# Altium footprint library WR-CIRCM12.PcbLib: 41 footprints (part 2 of 3)
Each footprint in its own frame and in the unit in brackets; x right, y up, seen from the top. Pads: shape width x height; smd on the part's side, far side on the other; paste and mask are expansions set on the pad; w line width, h text height; cw(c..) or ccw(c..) is an arc to the next point about the centre after c.
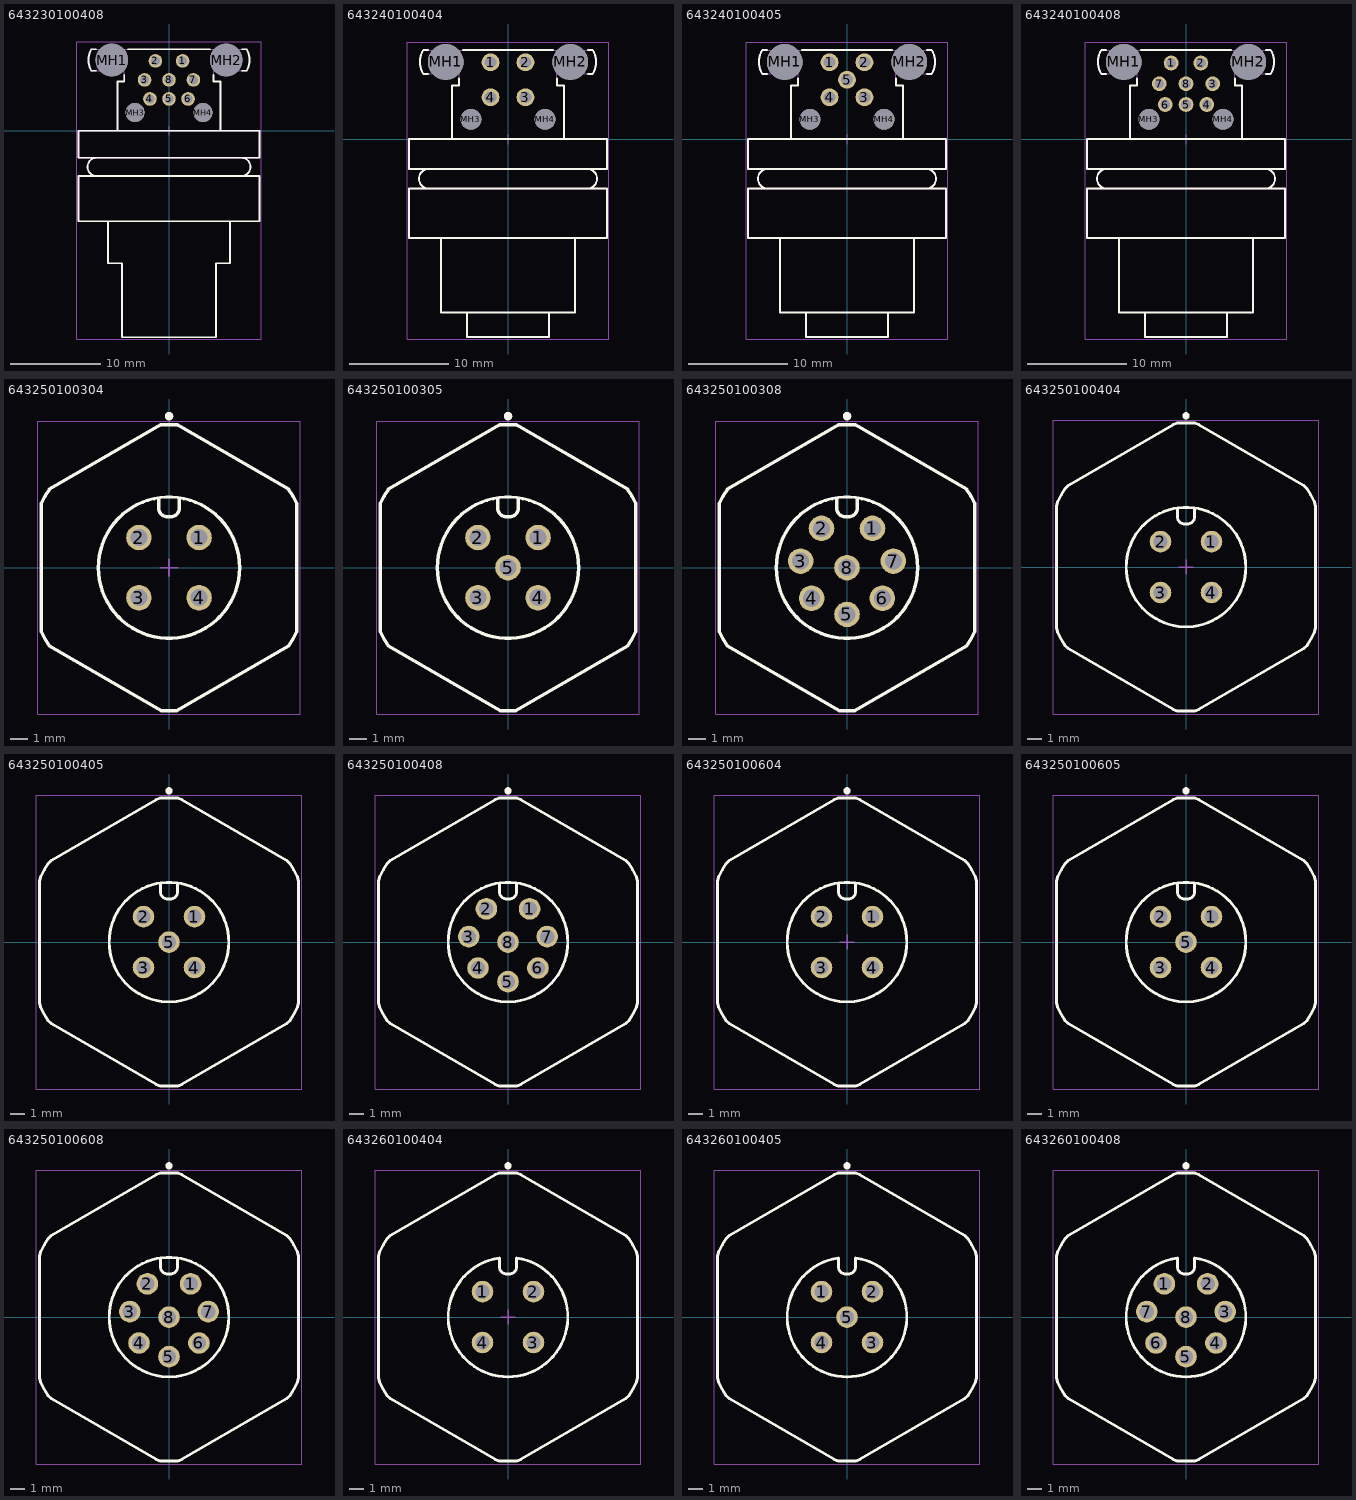
[diagram p1: the footprints below, top view; thin cyan lines are the x and y axes]

## 643230100408 [mm] "Serie M Male Plastic Angled Front Double"
height 22
pads (12):
  round 1.5 hole 1: 1(1.5,7.7) 2(-1.5,7.7) 3(-2.7,5.6) 4(-2.1,3.5) 5(0,3.5) 6(2.1,3.5) 7(2.7,5.6) 8(0,5.6)
  round 3.6 hole 3.6 unplated: MH1(-6.3,7.8) MH2(6.3,7.8)
  round 2.1 hole 2.1 unplated: MH3(-3.75,2) MH4(3.75,2)
Top Overlay:
  lines w0.2: -8.064,6.606 -8.564,6.606 cw(c-6.575,7.8) -8.561,8.999 -8.061,8.999 ; -8,-5 cw(c-8,-4) -8,-3 ; -6.75,-10 -6.75,-14.63 -5.185,-14.63 -5.185,-22.8 ; -6.3,7.8 -5.8,7.8 ; -5.68,0 -5.68,5.43 -4.93,5.43 -4.93,6.13 ; -5.185,-22.8 5.185,-22.8 ; -4.539,8.999 4.539,8.999 ; 4.93,6.13 4.93,5.43 5.68,5.43 5.68,0 ; 5.186,-22.8 5.186,-14.63 6.75,-14.63 6.75,-10 ; 8,-5 ccw(c8,-4) 8,-3 ; 8.061,8.999 8.561,8.999 cw(c6.575,7.8) 8.564,6.606 8.064,6.606 ; 9.9,-10 -10,-10 -10,-5 10,-5 10,-10 ; -10,-3 10,-3 10,0 -10,0 -10,-3
Assembly Notes:
  lines w0.2: -10,0 10,0
  text "PCB Edge" at -3.297,-1.633 h1
Top Assembly:
  lines w0.1: -8.564,6.6 -4.93,6.6 -4.93,5.43 -5.68,5.43 -5.68,0 ; -8.564,6.606 cw(c-6.575,7.8) -8.561,8.999 ; -8.561,9 8.561,9 ; -8,-5 cw(c-8,-4) -8,-3 ; -6.75,-10 -6.75,-14.63 -5.185,-14.63 -5.185,-22.8 ; -5.185,-22.8 5.185,-22.8 ; 5.186,-22.8 5.186,-14.63 6.75,-14.63 6.75,-10 ; 5.68,0 5.68,5.43 4.93,5.43 4.93,6.6 8.564,6.6 ; 8,-5 ccw(c8,-4) 8,-3 ; 8.561,8.999 cw(c6.575,7.8) 8.564,6.606 ; 9.9,-10 -10,-10 -10,-5 10,-5 10,-10 ; -10,-3 10,-3 10,0 -10,0 -10,-3
Top Designator:
  text ".Designator" at -3.647,5.243 h1
Top 3D Body:
  lines w0.1: -8.564,6.6 -4.93,6.6 -4.93,5.43 -5.68,5.43 -5.68,0 ; -8.564,6.606 cw(c-6.575,7.8) -8.561,8.999 ; -8.561,9 8.561,9 ; -8,-5 cw(c-8,-4) -8,-3 ; -6.75,-10 -6.75,-14.63 -5.185,-14.63 -5.185,-22.8 ; -5.185,-22.8 5.185,-22.8 ; 5.186,-22.8 5.186,-14.63 6.75,-14.63 6.75,-10 ; 5.68,0 5.68,5.43 4.93,5.43 4.93,6.6 8.564,6.6 ; 8,-5 ccw(c8,-4) 8,-3 ; 8.561,8.999 cw(c6.575,7.8) 8.564,6.606 ; 9.9,-10 -10,-10 -10,-5 10,-5 10,-10 ; -10,-3 10,-3 10,0 -10,0 -10,-3
Top Courtyard:
  lines w0.05: -10.2,-23 -10.2,9.8 10.2,9.8 10.2,-23 -10.2,-23
Top Component Center:
  lines w0.1: -0.5,0 0.5,0 ; 0,-0.5 0,0.5
3D body "643230100408.stp": height 23.1, standoff -3, extent -10,-22.8 10,9

## 643240100404 [mm] "Serie M Female Plastic Angled Front Double"
height 22
pads (8):
  round 1.8 hole 1.2: 1(-1.768,7.768) 2(1.768,7.768) 3(1.768,4.232) 4(-1.768,4.232)
  round 3.6 hole 3.6 unplated: MH1(-6.3,7.8) MH2(6.3,7.8)
  round 2.1 hole 2.1 unplated: MH3(-3.75,2) MH4(3.75,2)
Top Overlay:
  lines w0.2: -8.064,6.606 -8.564,6.606 cw(c-6.575,7.8) -8.561,8.999 -8.061,8.999 ; -8,-5 cw(c-8,-4) -8,-3 ; -6.75,-10 -6.75,-17.5 6.75,-17.5 6.75,-10 ; -6.3,7.8 -5.8,7.8 ; -5.68,0 -5.68,5.43 -4.93,5.43 -4.93,6.13 ; -4.539,8.999 4.539,8.999 ; -4.15,-17.5 -4.15,-20 4.15,-20 4.15,-17.5 ; 4.93,6.13 4.93,5.43 5.68,5.43 5.68,0 ; 8,-5 ccw(c8,-4) 8,-3 ; 8.061,8.999 8.561,8.999 cw(c6.575,7.8) 8.564,6.606 8.064,6.606 ; 9.9,-10 -10,-10 -10,-5 10,-5 10,-10 ; -10,-3 10,-3 10,0 -10,0 -10,-3
Assembly Notes:
  lines w0.2: -10,0 10,0
  text "PCB Edge" at -2.959,-1.533 h1
Top Assembly:
  lines w0.1: -8.564,6.6 -4.93,6.6 -4.93,5.43 -5.68,5.43 -5.68,0 ; -8.564,6.606 cw(c-6.575,7.8) -8.561,8.999 ; -8.561,9 8.561,9 ; -8,-5 cw(c-8,-4) -8,-3 ; -6.75,-10 -6.75,-17.5 6.75,-17.5 6.75,-10 ; -4.15,-17.5 -4.15,-20 4.15,-20 4.15,-17.5 ; 5.68,0 5.68,5.43 4.93,5.43 4.93,6.6 8.564,6.6 ; 8,-5 ccw(c8,-4) 8,-3 ; 8.561,8.999 cw(c6.575,7.8) 8.564,6.606 ; 9.9,-10 -10,-10 -10,-5 10,-5 10,-10 ; -10,-3 10,-3 10,0 -10,0 -10,-3
Top Designator:
  text ".Designator" at -3.647,5.643 h1
Top 3D Body:
  lines w0.1: -8.564,6.6 -4.93,6.6 -4.93,5.43 -5.68,5.43 -5.68,0 ; -8.564,6.606 cw(c-6.575,7.8) -8.561,8.999 ; -8.561,9 8.561,9 ; -8,-5 cw(c-8,-4) -8,-3 ; -6.75,-10 -6.75,-17.5 6.75,-17.5 6.75,-10 ; -4.15,-17.5 -4.15,-20 4.15,-20 4.15,-17.5 ; 5.68,0 5.68,5.43 4.93,5.43 4.93,6.6 8.564,6.6 ; 8,-5 ccw(c8,-4) 8,-3 ; 8.561,8.999 cw(c6.575,7.8) 8.564,6.606 ; 9.9,-10 -10,-10 -10,-5 10,-5 10,-10 ; -10,-3 -10,0 10,0 10,-3 -10,-3
Top Courtyard:
  lines w0.05: -10.2,-20.2 10.2,-20.2 10.2,9.8 -10.2,9.8 -10.2,-20.2
Top Component Center:
  lines w0.1: -0.5,0 0.5,0 ; 0,-0.5 0,0.5
3D body "643240100404.stp": height 23.1, standoff -3, extent -10,-20 10,9

## 643240100405 [mm] "Serie M Female Plastic Angled Front Double"
height 22
pads (9):
  round 1.8 hole 1.2: 1(-1.768,7.768) 2(1.768,7.768) 3(1.768,4.232) 4(-1.768,4.232) 5(0,6)
  round 3.6 hole 3.6 unplated: MH1(-6.3,7.8) MH2(6.3,7.8)
  round 2.1 hole 2.1 unplated: MH3(-3.75,2) MH4(3.75,2)
Top Overlay:
  lines w0.2: -8.064,6.606 -8.564,6.606 cw(c-6.575,7.8) -8.561,8.999 -8.061,8.999 ; -8,-5 cw(c-8,-4) -8,-3 ; -6.75,-10 -6.75,-17.5 6.75,-17.5 6.75,-10 ; -6.3,7.8 -5.8,7.8 ; -5.68,0 -5.68,5.43 -4.93,5.43 -4.93,6.13 ; -4.539,8.999 4.539,8.999 ; -4.15,-17.5 -4.15,-20 4.15,-20 4.15,-17.5 ; 4.93,6.13 4.93,5.43 5.68,5.43 5.68,0 ; 8,-5 ccw(c8,-4) 8,-3 ; 8.061,8.999 8.561,8.999 cw(c6.575,7.8) 8.564,6.606 8.064,6.606 ; 9.9,-10 -10,-10 -10,-5 10,-5 10,-10 ; -10,-3 -10,0 10,0 10,-3 -10,-3
Assembly Notes:
  lines w0.1: -10,0 10,0
  text "PCB Edge" at -2.959,-1.533 h1
Top Assembly:
  lines w0.1: -8.564,6.6 -4.93,6.6 -4.93,5.43 -5.68,5.43 -5.68,0 ; -8.564,6.606 cw(c-6.575,7.8) -8.561,8.999 ; -8.561,9 8.561,9 ; -8,-5 cw(c-8,-4) -8,-3 ; -6.75,-10 -6.75,-17.5 6.75,-17.5 6.75,-10 ; -4.15,-17.5 -4.15,-20 4.15,-20 4.15,-17.5 ; 5.68,0 5.68,5.43 4.93,5.43 4.93,6.6 8.564,6.6 ; 8,-5 ccw(c8,-4) 8,-3 ; 8.561,8.999 cw(c6.575,7.8) 8.564,6.606 ; 9.9,-10 -10,-10 -10,-5 10,-5 10,-10 ; -10,-3 -10,0 10,0 10,-3 -10,-3
Top Designator:
  text ".Designator" at -3.647,5.643 h1
Top 3D Body:
  lines w0.1: -8.564,6.6 -4.93,6.6 -4.93,5.43 -5.68,5.43 -5.68,0 ; -8.564,6.606 cw(c-6.575,7.8) -8.561,8.999 ; -8.561,9 8.561,9 ; -8,-5 cw(c-8,-4) -8,-3 ; -6.75,-10 -6.75,-17.5 6.75,-17.5 6.75,-10 ; -4.15,-17.5 -4.15,-20 4.15,-20 4.15,-17.5 ; 5.68,0 5.68,5.43 4.93,5.43 4.93,6.6 8.564,6.6 ; 8,-5 ccw(c8,-4) 8,-3 ; 8.561,8.999 cw(c6.575,7.8) 8.564,6.606 ; 9.9,-10 -10,-10 -10,-5 10,-5 10,-10 ; -10,-3 10,-3 10,0 -10,0 -10,-3
Top Courtyard:
  lines w0.05: -10.2,-20.2 -10.2,9.8 10.2,9.8 10.2,-20.2 -10.2,-20.2
Top Component Center:
  lines w0.1: -0.5,0 0.5,0 ; 0,-0.5 0,0.5
3D body "643240100405.stp": height 23.1, standoff -3, extent -10,-20 10,9

## 643240100408 [mm] "Serie M Female Plastic Angled Front Double"
height 22
pads (12):
  round 1.5 hole 1: 1(-1.5,7.7) 2(1.5,7.7) 3(2.7,5.6) 4(2.1,3.5) 5(0,3.5) 6(-2.1,3.5) 7(-2.7,5.6) 8(0,5.6)
  round 3.6 hole 3.6 unplated: MH1(-6.3,7.8) MH2(6.3,7.8)
  round 2.1 hole 2.1 unplated: MH3(-3.75,2) MH4(3.75,2)
Top Overlay:
  lines w0.2: -8.064,6.606 -8.564,6.606 cw(c-6.575,7.8) -8.561,8.999 -8.061,8.999 ; -8,-5 cw(c-8,-4) -8,-3 ; -6.75,-10 -6.75,-17.5 6.75,-17.5 6.75,-10 ; -6.3,7.8 -5.8,7.8 ; -5.68,0 -5.68,5.43 -4.93,5.43 -4.93,6.13 ; -4.539,8.999 4.539,8.999 ; -4.15,-17.5 -4.15,-20 4.15,-20 4.15,-17.5 ; 4.93,6.13 4.93,5.43 5.68,5.43 5.68,0 ; 8,-5 ccw(c8,-4) 8,-3 ; 8.061,8.999 8.561,8.999 cw(c6.575,7.8) 8.564,6.606 8.064,6.606 ; 9.9,-10 -10,-10 -10,-5 10,-5 10,-10 ; -10,-3 -10,0 10,0 10,-3 -10,-3
Assembly Notes:
  lines w0.1: -10,0 10,0
  text "PCB Edge" at -2.959,-1.533 h1
Top Assembly:
  lines w0.1: -8.564,6.6 -4.93,6.6 -4.93,5.43 -5.68,5.43 -5.68,0 ; -8.564,6.606 cw(c-6.575,7.8) -8.561,8.999 ; -8.561,9 8.561,9 ; -8,-5 cw(c-8,-4) -8,-3 ; -6.75,-10 -6.75,-17.5 6.75,-17.5 6.75,-10 ; -4.15,-17.5 -4.15,-20 4.15,-20 4.15,-17.5 ; 5.68,0 5.68,5.43 4.93,5.43 4.93,6.6 8.564,6.6 ; 8,-5 ccw(c8,-4) 8,-3 ; 8.561,8.999 cw(c6.575,7.8) 8.564,6.606 ; 9.9,-10 -10,-10 -10,-5 10,-5 10,-10 ; -10,-3 -10,0 10,0 10,-3 -10,-3
Top Designator:
  text ".Designator" at -3.647,5.243 h1
Top 3D Body:
  lines w0.1: -8.564,6.6 -4.93,6.6 -4.93,5.43 -5.68,5.43 -5.68,0 ; -8.564,6.606 cw(c-6.575,7.8) -8.561,8.999 ; -8.561,9 8.561,9 ; -8,-5 cw(c-8,-4) -8,-3 ; -6.75,-10 -6.75,-17.5 6.75,-17.5 6.75,-10 ; -4.15,-17.5 -4.15,-20 4.15,-20 4.15,-17.5 ; 5.68,0 5.68,5.43 4.93,5.43 4.93,6.6 8.564,6.6 ; 8,-5 ccw(c8,-4) 8,-3 ; 8.561,8.999 cw(c6.575,7.8) 8.564,6.606 ; 9.9,-10 -10,-10 -10,-5 10,-5 10,-10 ; -10,-3 10,-3 10,0 -10,0 -10,-3
Top Courtyard:
  lines w0.05: -10.2,-20.2 -10.2,9.8 10.2,9.8 10.2,-20.2 -10.2,-20.2
Top Component Center:
  lines w0.1: -0.5,0 0.5,0 ; 0,-0.5 0,0.5
3D body "643240100408.stp": height 23.1, standoff -3, extent -10,-20 10,9

## 643250100304 [mm] "Male Metal Straight Front Simple"
height 23.5
pads (4):
  round 1.5 hole 1: 1(1.768,1.768) 2(-1.768,1.768) 3(-1.768,-1.768) 4(1.768,-1.768)
Top Overlay:
  circle w0.25: c0,8.9 r0.125
  circle w0.2: c0,0 r4.15
  lines w0.2: -7.5,-3.785 -7.5,3.785 ; -7.499,-3.785 ccw(c0,0) -7.027,-4.603 ; -7.499,3.785 cw(c0,0) -7.027,4.603 ; -7.03,-4.605 -0.457,-8.4 0.457,-8.4 7.03,-4.605 ; -7.03,4.605 -0.457,8.4 0.457,8.4 7.03,4.605 ; -0.6,4.09 -0.6,3.49 ccw(c-0.1,3.49) -0.1,2.99 0.1,2.99 ccw(c0.1,3.49) 0.6,3.49 0.6,4.09 ; 7.027,-4.603 ccw(c0,0) 7.499,-3.785 ; 7.027,4.603 cw(c0,0) 7.499,3.785 ; 7.5,-3.785 7.5,3.785
Top Assembly:
  circle w0.1: c0,0 r4.15
  lines w0.1: -7.5,-3.785 -7.5,3.785 ; -7.499,-3.785 ccw(c0,0) -7.027,-4.603 ; -7.499,3.785 cw(c0,0) -7.027,4.603 ; -7.03,-4.605 -0.457,-8.4 0.457,-8.4 7.03,-4.605 ; -7.03,4.605 -0.457,8.4 0.457,8.4 7.03,4.605 ; -0.6,4.09 -0.6,3.49 ccw(c-0.1,3.49) -0.1,2.99 0.1,2.99 ccw(c0.1,3.49) 0.6,3.49 0.6,4.09 ; 7.027,-4.603 ccw(c0,0) 7.499,-3.785 ; 7.027,4.603 cw(c0,0) 7.499,3.785 ; 7.5,-3.785 7.5,3.785
Top Designator:
  text ".Designator" at -3.647,-0.357 h1
Top Courtyard:
  lines w0.05: -7.7,-8.6 -7.7,8.6 7.7,8.6 7.7,-8.6 -7.7,-8.6
Top Component Center:
  lines w0.1: -0.5,0 0.5,0 ; 0,-0.5 0,0.5
3D body "643250100304.stp": height 23.55, standoff -2.95, extent -7.5,-8.4 7.5,8.399

## 643250100305 [mm] "Male Metal Straight Front Simple"
height 23.5
pads (5):
  round 1.5 hole 1: 1(1.768,1.768) 2(-1.768,1.768) 3(-1.768,-1.768) 4(1.768,-1.768) 5(0,0)
Top Overlay:
  circle w0.2: c0,0 r4.15
  circle w0.25: c0,8.9 r0.125
  lines w0.2: -7.5,-3.785 -7.5,3.785 ; -7.499,-3.785 ccw(c0,0) -7.027,-4.603 ; -7.499,3.785 cw(c0,0) -7.027,4.603 ; -7.03,-4.605 -0.457,-8.4 0.457,-8.4 7.03,-4.605 ; -7.03,4.605 -0.457,8.4 0.457,8.4 7.03,4.605 ; -0.6,4.09 -0.6,3.49 ccw(c-0.1,3.49) -0.1,2.99 0.1,2.99 ccw(c0.1,3.49) 0.6,3.49 0.6,4.09 ; 7.027,-4.603 ccw(c0,0) 7.499,-3.785 ; 7.027,4.603 cw(c0,0) 7.499,3.785 ; 7.5,-3.785 7.5,3.785
Top Assembly:
  circle w0.1: c0,0 r4.15
  lines w0.1: -7.5,-3.785 -7.5,3.785 ; -7.499,-3.785 ccw(c0,0) -7.027,-4.603 ; -7.499,3.785 cw(c0,0) -7.027,4.603 ; -7.03,-4.605 -0.457,-8.4 0.457,-8.4 7.03,-4.605 ; -7.03,4.605 -0.457,8.4 0.457,8.4 7.03,4.605 ; -0.6,4.09 -0.6,3.49 ccw(c-0.1,3.49) -0.1,2.99 0.1,2.99 ccw(c0.1,3.49) 0.6,3.49 0.6,4.09 ; 7.027,-4.603 ccw(c0,0) 7.499,-3.785 ; 7.027,4.603 cw(c0,0) 7.499,3.785 ; 7.5,-3.785 7.5,3.785
Top Designator:
  text ".Designator" at -3.647,-0.357 h1
Top Courtyard:
  lines w0.05: -7.7,-8.6 7.7,-8.6 7.7,8.6 -7.7,8.6 -7.7,-8.6
Top Component Center:
  lines w0.1: -0.5,0 0.5,0 ; 0,-0.5 0,0.5
3D body "643250100305.stp": height 23.55, standoff -2.95, extent -7.5,-8.4 7.5,8.399

## 643250100308 [mm] "Male Metal Straight Front Simple"
height 23.5
pads (8):
  round 1.5 hole 1: 1(1.498,2.306) 2(-1.498,2.306) 3(-2.723,0.383) 4(-2.08,-1.8) 5(0,-2.75) 6(2.08,-1.8) 7(2.723,0.383) 8(0,0)
Top Overlay:
  circle w0.2: c0,0 r4.15
  circle w0.25: c0,8.9 r0.125
  lines w0.2: -7.5,-3.785 -7.5,3.785 ; -7.499,-3.785 ccw(c0,0) -7.027,-4.603 ; -7.499,3.785 cw(c0,0) -7.027,4.603 ; -7.03,-4.605 -0.457,-8.4 0.457,-8.4 7.03,-4.605 ; -7.03,4.605 -0.457,8.4 0.457,8.4 7.03,4.605 ; -0.6,4.09 -0.6,3.49 ccw(c-0.1,3.49) -0.1,2.99 0.1,2.99 ccw(c0.1,3.49) 0.6,3.49 0.6,4.09 ; 7.027,-4.603 ccw(c0,0) 7.499,-3.785 ; 7.027,4.603 cw(c0,0) 7.499,3.785 ; 7.5,-3.785 7.5,3.785
Top Assembly:
  circle w0.1: c0,0 r4.15
  lines w0.1: -7.5,-3.785 -7.5,3.785 ; -7.499,-3.785 ccw(c0,0) -7.027,-4.603 ; -7.499,3.785 cw(c0,0) -7.027,4.603 ; -7.03,-4.605 -0.457,-8.4 0.457,-8.4 7.03,-4.605 ; -7.03,4.605 -0.457,8.4 0.457,8.4 7.03,4.605 ; -0.6,4.09 -0.6,3.49 ccw(c-0.1,3.49) -0.1,2.99 0.1,2.99 ccw(c0.1,3.49) 0.6,3.49 0.6,4.09 ; 7.027,-4.603 ccw(c0,0) 7.499,-3.785 ; 7.027,4.603 cw(c0,0) 7.499,3.785 ; 7.5,-3.785 7.5,3.785
Top Designator:
  text ".Designator" at -3.647,-0.357 h1
Top Courtyard:
  lines w0.05: -7.7,-8.6 -7.7,8.6 7.7,8.6 7.7,-8.6 -7.7,-8.6
Top Component Center:
  lines w0.1: -0.5,0 0.5,0 ; 0,-0.5 0,0.5
3D body "643250100308.stp": height 23.55, standoff -2.95, extent -7.5,-8.4 7.5,8.399

## 643250100404 [mm] "Male Metal Straight Front Double M16 - M12, 4p"
height 20.5
pads (4):
  round 1.5 hole 1: 1(1.768,1.768) 2(-1.768,1.768) 3(-1.768,-1.768) 4(1.768,-1.768)
Top Overlay:
  circle w0.2: c0,0 r4.15
  circle w0.25: c0,10.5 r0.125
  lines w0.2: -8.925,-4.511 -9,-4.195 -9,4.195 -8.925,4.511 ; -8.91,-4.54 ccw(c0,0) -8.366,-5.479 ; -8.91,4.54 cw(c0,0) -8.366,5.479 ; -8.36,-5.475 -8.149,-5.674 -0.891,-9.883 -0.623,-9.994 ; -8.36,5.475 -8.149,5.674 -0.891,9.883 -0.623,9.994 ; -0.6,-10 0.6,-10 ; -0.6,4.09 -0.6,3.49 ccw(c-0.1,3.49) -0.1,2.99 0.1,2.99 ccw(c0.1,3.49) 0.6,3.49 0.6,4.09 ; -0.6,10 0.6,10 ; 0.623,-9.994 0.891,-9.883 8.149,-5.674 8.36,-5.475 ; 0.623,9.994 0.891,9.883 8.149,5.674 8.36,5.475 ; 8.366,-5.479 ccw(c0,0) 8.91,-4.54 ; 8.366,5.479 cw(c0,0) 8.91,4.54 ; 8.925,-4.511 9,-4.195 9,4.195 8.925,4.511
Top Assembly:
  circle w0.1: c0,0 r4.15
  lines w0.1: -8.925,-4.511 -9,-4.195 -9,4.195 -8.925,4.511 ; -8.91,-4.54 ccw(c0,0) -8.366,-5.479 ; -8.91,4.54 cw(c0,0) -8.366,5.479 ; -8.36,-5.475 -8.149,-5.674 -0.891,-9.883 -0.623,-9.994 ; -8.36,5.475 -8.149,5.674 -0.891,9.883 -0.623,9.994 ; -0.6,-10 0.6,-10 ; -0.6,4.09 -0.6,3.49 ccw(c-0.1,3.49) -0.1,2.99 0.1,2.99 ccw(c0.1,3.49) 0.6,3.49 0.6,4.09 ; -0.6,10 0.6,10 ; 0.623,-9.994 0.891,-9.883 8.149,-5.674 8.36,-5.475 ; 0.623,9.994 0.891,9.883 8.149,5.674 8.36,5.475 ; 8.366,-5.479 ccw(c0,0) 8.91,-4.54 ; 8.366,5.479 cw(c0,0) 8.91,4.54 ; 8.925,-4.511 9,-4.195 9,4.195 8.925,4.511
Top Designator:
  text ".Designator" at -3.647,-0.357 h1
Top 3D Body:
  circle w0.1: c0,0 r4.15
  lines w0.1: -8.925,-4.511 -9,-4.195 -9,4.195 -8.925,4.511 ; -8.91,-4.54 ccw(c0,0) -8.366,-5.479 ; -8.91,4.54 cw(c0,0) -8.366,5.479 ; -8.36,-5.475 -8.149,-5.674 -0.891,-9.883 -0.623,-9.994 ; -8.36,5.475 -8.149,5.674 -0.891,9.883 -0.623,9.994 ; -0.6,-10 0.6,-10 ; -0.6,4.09 -0.6,3.49 ccw(c-0.1,3.49) -0.1,2.99 0.1,2.99 ccw(c0.1,3.49) 0.6,3.49 0.6,4.09 ; -0.6,10 0.6,10 ; 0.623,-9.994 0.891,-9.883 8.149,-5.674 8.36,-5.475 ; 0.623,9.994 0.891,9.883 8.149,5.674 8.36,5.475 ; 8.366,-5.479 ccw(c0,0) 8.91,-4.54 ; 8.366,5.479 cw(c0,0) 8.91,4.54 ; 8.925,-4.511 9,-4.195 9,4.195 8.925,4.511
Top Courtyard:
  lines w0.05: -9.2,-10.2 9.2,-10.2 9.2,10.2 -9.2,10.2 -9.2,-10.2
Top Component Center:
  lines w0.1: -0.5,0 0.5,0 ; 0,-0.5 0,0.5
3D body "643250100404.stp": height 23.6, standoff -2.9, extent -9.016,-9.999 9.024,9.998

## 643250100405 [mm] "Male Metal Straight Front Double M16 - M12, 5p"
height 20.5
pads (5):
  round 1.5 hole 1: 1(1.768,1.768) 2(-1.768,1.768) 3(-1.768,-1.768) 4(1.768,-1.768) 5(0,0)
Top Overlay:
  circle w0.2: c0,0 r4.15
  circle w0.25: c0,10.5 r0.125
  lines w0.2: -8.925,-4.511 -9,-4.195 -9,4.195 -8.925,4.511 ; -8.91,-4.54 ccw(c0,0) -8.366,-5.479 ; -8.91,4.54 cw(c0,0) -8.366,5.479 ; -8.36,-5.475 -8.149,-5.674 -0.891,-9.883 -0.623,-9.994 ; -8.36,5.475 -8.149,5.674 -0.891,9.883 -0.623,9.994 ; -0.6,-10 0.6,-10 ; -0.6,4.09 -0.6,3.49 ccw(c-0.1,3.49) -0.1,2.99 0.1,2.99 ccw(c0.1,3.49) 0.6,3.49 0.6,4.09 ; -0.6,10 0.6,10 ; 0.623,-9.994 0.891,-9.883 8.149,-5.674 8.36,-5.475 ; 0.623,9.994 0.891,9.883 8.149,5.674 8.36,5.475 ; 8.366,-5.479 ccw(c0,0) 8.91,-4.54 ; 8.366,5.479 cw(c0,0) 8.91,4.54 ; 8.925,-4.511 9,-4.195 9,4.195 8.925,4.511
Top Assembly:
  circle w0.1: c0,0 r4.15
  lines w0.1: -8.925,-4.511 -9,-4.195 -9,4.195 -8.925,4.511 ; -8.91,-4.54 ccw(c0,0) -8.366,-5.479 ; -8.91,4.54 cw(c0,0) -8.366,5.479 ; -8.36,-5.475 -8.149,-5.674 -0.891,-9.883 -0.623,-9.994 ; -8.36,5.475 -8.149,5.674 -0.891,9.883 -0.623,9.994 ; -0.6,-10 0.6,-10 ; -0.6,4.09 -0.6,3.49 ccw(c-0.1,3.49) -0.1,2.99 0.1,2.99 ccw(c0.1,3.49) 0.6,3.49 0.6,4.09 ; -0.6,10 0.6,10 ; 0.623,-9.994 0.891,-9.883 8.149,-5.674 8.36,-5.475 ; 0.623,9.994 0.891,9.883 8.149,5.674 8.36,5.475 ; 8.366,-5.479 ccw(c0,0) 8.91,-4.54 ; 8.366,5.479 cw(c0,0) 8.91,4.54 ; 8.925,-4.511 9,-4.195 9,4.195 8.925,4.511
Top Designator:
  text ".Designator" at -3.647,-0.357 h1
Top 3D Body:
  circle w0.1: c0,0 r4.15
  lines w0.1: -8.925,-4.511 -9,-4.195 -9,4.195 -8.925,4.511 ; -8.91,-4.54 ccw(c0,0) -8.366,-5.479 ; -8.91,4.54 cw(c0,0) -8.366,5.479 ; -8.36,-5.475 -8.149,-5.674 -0.891,-9.883 -0.623,-9.994 ; -8.36,5.475 -8.149,5.674 -0.891,9.883 -0.623,9.994 ; -0.6,-10 0.6,-10 ; -0.6,4.09 -0.6,3.49 ccw(c-0.1,3.49) -0.1,2.99 0.1,2.99 ccw(c0.1,3.49) 0.6,3.49 0.6,4.09 ; -0.6,10 0.6,10 ; 0.623,-9.994 0.891,-9.883 8.149,-5.674 8.36,-5.475 ; 0.623,9.994 0.891,9.883 8.149,5.674 8.36,5.475 ; 8.366,-5.479 ccw(c0,0) 8.91,-4.54 ; 8.366,5.479 cw(c0,0) 8.91,4.54 ; 8.925,-4.511 9,-4.195 9,4.195 8.925,4.511
Top Courtyard:
  lines w0.05: -9.2,-10.2 -9.2,10.2 9.2,10.2 9.2,-10.2 -9.2,-10.2
Top Component Center:
  lines w0.1: -0.5,0 0.5,0 ; 0,-0.5 0,0.5
3D body "643250100405.stp": height 23.6, standoff -2.9, extent -9.016,-9.999 9.024,9.998

## 643250100408 [mm] "Male Metal Straight Front Double M16 - M12, 8p"
height 20.5
pads (8):
  round 1.5 hole 1: 1(1.498,2.306) 2(-1.498,2.306) 3(-2.723,0.383) 4(-2.08,-1.8) 5(0,-2.75) 6(2.08,-1.8) 7(2.723,0.383) 8(0,0)
Top Overlay:
  circle w0.2: c0,0 r4.15
  circle w0.25: c0,10.5 r0.125
  lines w0.2: -8.925,-4.511 -9,-4.195 -9,4.195 -8.925,4.511 ; -8.91,-4.54 ccw(c0,0) -8.366,-5.479 ; -8.91,4.54 cw(c0,0) -8.366,5.479 ; -8.36,-5.475 -8.149,-5.674 -0.891,-9.883 -0.623,-9.994 ; -8.36,5.475 -8.149,5.674 -0.891,9.883 -0.623,9.994 ; -0.6,-10 0.6,-10 ; -0.6,4.09 -0.6,3.49 ccw(c-0.1,3.49) -0.1,2.99 0.1,2.99 ccw(c0.1,3.49) 0.6,3.49 0.6,4.09 ; -0.6,10 0.6,10 ; 0.623,-9.994 0.891,-9.883 8.149,-5.674 8.36,-5.475 ; 0.623,9.994 0.891,9.883 8.149,5.674 8.36,5.475 ; 8.366,-5.479 ccw(c0,0) 8.91,-4.54 ; 8.366,5.479 cw(c0,0) 8.91,4.54 ; 8.925,-4.511 9,-4.195 9,4.195 8.925,4.511
Top Assembly:
  circle w0.1: c0,0 r4.15
  lines w0.1: -8.925,-4.511 -9,-4.195 -9,4.195 -8.925,4.511 ; -8.91,-4.54 ccw(c0,0) -8.366,-5.479 ; -8.91,4.54 cw(c0,0) -8.366,5.479 ; -8.36,-5.475 -8.149,-5.674 -0.891,-9.883 -0.623,-9.994 ; -8.36,5.475 -8.149,5.674 -0.891,9.883 -0.623,9.994 ; -0.6,-10 0.6,-10 ; -0.6,4.09 -0.6,3.49 ccw(c-0.1,3.49) -0.1,2.99 0.1,2.99 ccw(c0.1,3.49) 0.6,3.49 0.6,4.09 ; -0.6,10 0.6,10 ; 0.623,-9.994 0.891,-9.883 8.149,-5.674 8.36,-5.475 ; 0.623,9.994 0.891,9.883 8.149,5.674 8.36,5.475 ; 8.366,-5.479 ccw(c0,0) 8.91,-4.54 ; 8.366,5.479 cw(c0,0) 8.91,4.54 ; 8.925,-4.511 9,-4.195 9,4.195 8.925,4.511
Top Designator:
  text ".Designator" at -3.647,-0.357 h1
Top 3D Body:
  circle w0.1: c0,0 r4.15
  lines w0.1: -8.925,-4.511 -9,-4.195 -9,4.195 -8.925,4.511 ; -8.91,-4.54 ccw(c0,0) -8.366,-5.479 ; -8.91,4.54 cw(c0,0) -8.366,5.479 ; -8.36,-5.475 -8.149,-5.674 -0.891,-9.883 -0.623,-9.994 ; -8.36,5.475 -8.149,5.674 -0.891,9.883 -0.623,9.994 ; -0.6,-10 0.6,-10 ; -0.6,4.09 -0.6,3.49 ccw(c-0.1,3.49) -0.1,2.99 0.1,2.99 ccw(c0.1,3.49) 0.6,3.49 0.6,4.09 ; -0.6,10 0.6,10 ; 0.623,-9.994 0.891,-9.883 8.149,-5.674 8.36,-5.475 ; 0.623,9.994 0.891,9.883 8.149,5.674 8.36,5.475 ; 8.366,-5.479 ccw(c0,0) 8.91,-4.54 ; 8.366,5.479 cw(c0,0) 8.91,4.54 ; 8.925,-4.511 9,-4.195 9,4.195 8.925,4.511
Top Courtyard:
  lines w0.05: -9.2,-10.2 -9.2,10.2 9.2,10.2 9.2,-10.2 -9.2,-10.2
Top Component Center:
  lines w0.1: -0.5,0 0.5,0 ; 0,-0.5 0,0.5
3D body "643250100408.stp": height 23.6, standoff -2.9, extent -9.016,-9.999 9.024,9.998

## 643250100604 [mm] "MALE METAL STRAIGHT FRONT DOUBLE  PG9 - M12"
height 23.5
pads (4):
  round 1.5 hole 1: 1(1.768,1.768) 2(-1.768,1.768) 3(-1.768,-1.768) 4(1.768,-1.768)
Top Overlay:
  circle w0.2: c0,0 r4.15
  circle w0.25: c0,10.5 r0.125
  lines w0.2: -8.925,-4.511 -9,-4.195 -9,4.195 -8.925,4.511 ; -8.91,-4.54 ccw(c0,0) -8.366,-5.479 ; -8.91,4.54 cw(c0,0) -8.366,5.479 ; -8.36,-5.475 -8.149,-5.674 -0.891,-9.883 -0.623,-9.994 ; -8.36,5.475 -8.149,5.674 -0.891,9.883 -0.623,9.994 ; -0.6,-10 0.6,-10 ; -0.6,4.09 -0.6,3.49 ccw(c-0.1,3.49) -0.1,2.99 0.1,2.99 ccw(c0.1,3.49) 0.6,3.49 0.6,4.09 ; -0.6,10 0.6,10 ; 0.623,-9.994 0.891,-9.883 8.149,-5.674 8.36,-5.475 ; 0.623,9.994 0.891,9.883 8.149,5.674 8.36,5.475 ; 8.366,-5.479 ccw(c0,0) 8.91,-4.54 ; 8.366,5.479 cw(c0,0) 8.91,4.54 ; 8.925,-4.511 9,-4.195 9,4.195 8.925,4.511
Top Assembly:
  circle w0.1: c0,0 r4.15
  lines w0.1: -8.925,-4.511 -9,-4.195 -9,4.195 -8.925,4.511 ; -8.91,-4.54 ccw(c0,0) -8.366,-5.479 ; -8.91,4.54 cw(c0,0) -8.366,5.479 ; -8.36,-5.475 -8.149,-5.674 -0.891,-9.883 -0.623,-9.994 ; -8.36,5.475 -8.149,5.674 -0.891,9.883 -0.623,9.994 ; -0.6,-10 0.6,-10 ; -0.6,4.09 -0.6,3.49 ccw(c-0.1,3.49) -0.1,2.99 0.1,2.99 ccw(c0.1,3.49) 0.6,3.49 0.6,4.09 ; -0.6,10 0.6,10 ; 0.623,-9.994 0.891,-9.883 8.149,-5.674 8.36,-5.475 ; 0.623,9.994 0.891,9.883 8.149,5.674 8.36,5.475 ; 8.366,-5.479 ccw(c0,0) 8.91,-4.54 ; 8.366,5.479 cw(c0,0) 8.91,4.54 ; 8.925,-4.511 9,-4.195 9,4.195 8.925,4.511
Top Designator:
  text ".Designator" at -3.647,-0.357 h1
Top 3D Body:
  circle w0.1: c0,0 r4.15
  lines w0.1: -8.925,-4.511 -9,-4.195 -9,4.195 -8.925,4.511 ; -8.91,-4.54 ccw(c0,0) -8.366,-5.479 ; -8.91,4.54 cw(c0,0) -8.366,5.479 ; -8.36,-5.475 -8.149,-5.674 -0.891,-9.883 -0.623,-9.994 ; -8.36,5.475 -8.149,5.674 -0.891,9.883 -0.623,9.994 ; -0.6,-10 0.6,-10 ; -0.6,4.09 -0.6,3.49 ccw(c-0.1,3.49) -0.1,2.99 0.1,2.99 ccw(c0.1,3.49) 0.6,3.49 0.6,4.09 ; -0.6,10 0.6,10 ; 0.623,-9.994 0.891,-9.883 8.149,-5.674 8.36,-5.475 ; 0.623,9.994 0.891,9.883 8.149,5.674 8.36,5.475 ; 8.366,-5.479 ccw(c0,0) 8.91,-4.54 ; 8.366,5.479 cw(c0,0) 8.91,4.54 ; 8.925,-4.511 9,-4.195 9,4.195 8.925,4.511
Top Courtyard:
  lines w0.05: -9.2,-10.2 9.2,-10.2 9.2,10.2 -9.2,10.2 -9.2,-10.2
Top Component Center:
  lines w0.1: -0.5,0 0.5,0 ; 0,-0.5 0,0.5
3D body "643250100604.stp": height 23.55, standoff -2.95, extent -9.016,-9.998 9.024,9.998

## 643250100605 [mm] "MALE METAL STRAIGHT FRONT DOUBLE  PG9 - M12"
height 23.5
pads (5):
  round 1.5 hole 1: 1(1.768,1.768) 2(-1.768,1.768) 3(-1.768,-1.768) 4(1.768,-1.768) 5(0,0)
Top Overlay:
  circle w0.25: c0,10.5 r0.125
  circle w0.2: c0,0 r4.15
  lines w0.2: -8.925,-4.511 -9,-4.195 -9,4.195 -8.925,4.511 ; -8.91,-4.54 ccw(c0,0) -8.366,-5.479 ; -8.91,4.54 cw(c0,0) -8.366,5.479 ; -8.36,-5.475 -8.149,-5.674 -0.891,-9.883 -0.623,-9.994 ; -8.36,5.475 -8.149,5.674 -0.891,9.883 -0.623,9.994 ; -0.6,-10 0.6,-10 ; -0.6,4.09 -0.6,3.49 ccw(c-0.1,3.49) -0.1,2.99 0.1,2.99 ccw(c0.1,3.49) 0.6,3.49 0.6,4.09 ; -0.6,10 0.6,10 ; 0.623,-9.994 0.891,-9.883 8.149,-5.674 8.36,-5.475 ; 0.623,9.994 0.891,9.883 8.149,5.674 8.36,5.475 ; 8.366,-5.479 ccw(c0,0) 8.91,-4.54 ; 8.366,5.479 cw(c0,0) 8.91,4.54 ; 8.925,-4.511 9,-4.195 9,4.195 8.925,4.511
Top Assembly:
  circle w0.1: c0,0 r4.15
  lines w0.1: -8.925,-4.511 -9,-4.195 -9,4.195 -8.925,4.511 ; -8.91,-4.54 ccw(c0,0) -8.366,-5.479 ; -8.91,4.54 cw(c0,0) -8.366,5.479 ; -8.36,-5.475 -8.149,-5.674 -0.891,-9.883 -0.623,-9.994 ; -8.36,5.475 -8.149,5.674 -0.891,9.883 -0.623,9.994 ; -0.6,-10 0.6,-10 ; -0.6,4.09 -0.6,3.49 ccw(c-0.1,3.49) -0.1,2.99 0.1,2.99 ccw(c0.1,3.49) 0.6,3.49 0.6,4.09 ; -0.6,10 0.6,10 ; 0.623,-9.994 0.891,-9.883 8.149,-5.674 8.36,-5.475 ; 0.623,9.994 0.891,9.883 8.149,5.674 8.36,5.475 ; 8.366,-5.479 ccw(c0,0) 8.91,-4.54 ; 8.366,5.479 cw(c0,0) 8.91,4.54 ; 8.925,-4.511 9,-4.195 9,4.195 8.925,4.511
Top Designator:
  text ".Designator" at -3.647,-0.357 h1
Top 3D Body:
  circle w0.1: c0,0 r4.15
  lines w0.1: -8.925,-4.511 -9,-4.195 -9,4.195 -8.925,4.511 ; -8.91,-4.54 ccw(c0,0) -8.366,-5.479 ; -8.91,4.54 cw(c0,0) -8.366,5.479 ; -8.36,-5.475 -8.149,-5.674 -0.891,-9.883 -0.623,-9.994 ; -8.36,5.475 -8.149,5.674 -0.891,9.883 -0.623,9.994 ; -0.6,-10 0.6,-10 ; -0.6,4.09 -0.6,3.49 ccw(c-0.1,3.49) -0.1,2.99 0.1,2.99 ccw(c0.1,3.49) 0.6,3.49 0.6,4.09 ; -0.6,10 0.6,10 ; 0.623,-9.994 0.891,-9.883 8.149,-5.674 8.36,-5.475 ; 0.623,9.994 0.891,9.883 8.149,5.674 8.36,5.475 ; 8.366,-5.479 ccw(c0,0) 8.91,-4.54 ; 8.366,5.479 cw(c0,0) 8.91,4.54 ; 8.925,-4.511 9,-4.195 9,4.195 8.925,4.511
Top Courtyard:
  lines w0.05: -9.2,-10.2 9.2,-10.2 9.2,10.2 -9.2,10.2 -9.2,-10.2
Top Component Center:
  lines w0.1: -0.5,0 0.5,0 ; 0,-0.5 0,0.5
3D body "643250100605.stp": height 23.55, standoff -2.95, extent -9.016,-9.998 9.024,9.998

## 643250100608 [mm] "MALE METAL STRAIGHT FRONT DOUBLE  PG9 - M12"
height 23.5
pads (8):
  round 1.5 hole 1: 1(1.498,2.306) 2(-1.498,2.306) 3(-2.723,0.383) 4(-2.08,-1.8) 5(0,-2.75) 6(2.08,-1.8) 7(2.723,0.383) 8(0,0)
Top Overlay:
  circle w0.2: c0,0 r4.15
  circle w0.25: c0,10.5 r0.125
  lines w0.2: -8.925,-4.511 -9,-4.195 -9,4.195 -8.925,4.511 ; -8.91,-4.54 ccw(c0,0) -8.366,-5.479 ; -8.91,4.54 cw(c0,0) -8.366,5.479 ; -8.36,-5.475 -8.149,-5.674 -0.891,-9.883 -0.623,-9.994 ; -8.36,5.475 -8.149,5.674 -0.891,9.883 -0.623,9.994 ; -0.6,-10 0.6,-10 ; -0.6,4.09 -0.6,3.49 ccw(c-0.1,3.49) -0.1,2.99 0.1,2.99 ccw(c0.1,3.49) 0.6,3.49 0.6,4.09 ; -0.6,10 0.6,10 ; 0.623,-9.994 0.891,-9.883 8.149,-5.674 8.36,-5.475 ; 0.623,9.994 0.891,9.883 8.149,5.674 8.36,5.475 ; 8.366,-5.479 ccw(c0,0) 8.91,-4.54 ; 8.366,5.479 cw(c0,0) 8.91,4.54 ; 8.925,-4.511 9,-4.195 9,4.195 8.925,4.511
Top Assembly:
  circle w0.1: c0,0 r4.15
  lines w0.1: -8.925,-4.511 -9,-4.195 -9,4.195 -8.925,4.511 ; -8.91,-4.54 ccw(c0,0) -8.366,-5.479 ; -8.91,4.54 cw(c0,0) -8.366,5.479 ; -8.36,-5.475 -8.149,-5.674 -0.891,-9.883 -0.623,-9.994 ; -8.36,5.475 -8.149,5.674 -0.891,9.883 -0.623,9.994 ; -0.6,-10 0.6,-10 ; -0.6,4.09 -0.6,3.49 ccw(c-0.1,3.49) -0.1,2.99 0.1,2.99 ccw(c0.1,3.49) 0.6,3.49 0.6,4.09 ; -0.6,10 0.6,10 ; 0.623,-9.994 0.891,-9.883 8.149,-5.674 8.36,-5.475 ; 0.623,9.994 0.891,9.883 8.149,5.674 8.36,5.475 ; 8.366,-5.479 ccw(c0,0) 8.91,-4.54 ; 8.366,5.479 cw(c0,0) 8.91,4.54 ; 8.925,-4.511 9,-4.195 9,4.195 8.925,4.511
Top Designator:
  text ".Designator" at -3.647,-0.357 h1
Top 3D Body:
  circle w0.1: c0,0 r4.15
  lines w0.1: -8.925,-4.511 -9,-4.195 -9,4.195 -8.925,4.511 ; -8.91,-4.54 ccw(c0,0) -8.366,-5.479 ; -8.91,4.54 cw(c0,0) -8.366,5.479 ; -8.36,-5.475 -8.149,-5.674 -0.891,-9.883 -0.623,-9.994 ; -8.36,5.475 -8.149,5.674 -0.891,9.883 -0.623,9.994 ; -0.6,-10 0.6,-10 ; -0.6,4.09 -0.6,3.49 ccw(c-0.1,3.49) -0.1,2.99 0.1,2.99 ccw(c0.1,3.49) 0.6,3.49 0.6,4.09 ; -0.6,10 0.6,10 ; 0.623,-9.994 0.891,-9.883 8.149,-5.674 8.36,-5.475 ; 0.623,9.994 0.891,9.883 8.149,5.674 8.36,5.475 ; 8.366,-5.479 ccw(c0,0) 8.91,-4.54 ; 8.366,5.479 cw(c0,0) 8.91,4.54 ; 8.925,-4.511 9,-4.195 9,4.195 8.925,4.511
Top Courtyard:
  lines w0.05: -9.2,-10.2 -9.2,10.2 9.2,10.2 9.2,-10.2 -9.2,-10.2
Top Component Center:
  lines w0.1: -0.5,0 0.5,0 ; 0,-0.5 0,0.5
3D body "643250100608.stp": height 23.55, standoff -2.95, extent -9.016,-9.998 9.024,9.998

## 643260100404 [mm] "FEmale Metal Straight Front Simple, 4p"
height 20
pads (4):
  round 1.5 hole 1: 1(-1.768,1.768) 2(1.768,1.768) 3(1.768,-1.768) 4(-1.768,-1.768)
Top Overlay:
  circle w0.25: c0,10.5 r0.125
  lines w0.2: -8.925,-4.511 -9,-4.195 -9,4.195 -8.925,4.511 ; -8.91,-4.54 ccw(c0,0) -8.366,-5.479 ; -8.91,4.54 cw(c0,0) -8.366,5.479 ; -8.36,-5.475 -8.149,-5.674 -0.891,-9.883 -0.623,-9.994 ; -8.36,5.475 -8.149,5.674 -0.891,9.883 -0.623,9.994 ; -0.602,4.106 ccw(c0,0) 0.602,4.106 ; -0.6,-10 0.6,-10 ; -0.6,4.09 -0.6,3.49 ccw(c-0.1,3.49) -0.1,2.99 0.1,2.99 ccw(c0.1,3.49) 0.6,3.49 0.6,4.09 ; -0.6,10 0.6,10 ; 0.623,-9.994 0.891,-9.883 8.149,-5.674 8.36,-5.475 ; 0.623,9.994 0.891,9.883 8.149,5.674 8.36,5.475 ; 8.366,-5.479 ccw(c0,0) 8.91,-4.54 ; 8.366,5.479 cw(c0,0) 8.91,4.54 ; 8.925,-4.511 9,-4.195 9,4.195 8.925,4.511
Top Assembly:
  lines w0.1: -8.925,-4.511 -9,-4.195 -9,4.195 -8.925,4.511 ; -8.91,-4.54 ccw(c0,0) -8.366,-5.479 ; -8.91,4.54 cw(c0,0) -8.366,5.479 ; -8.36,-5.475 -8.149,-5.674 -0.891,-9.883 -0.623,-9.994 ; -8.36,5.475 -8.149,5.674 -0.891,9.883 -0.623,9.994 ; -0.602,4.106 ccw(c0,0) 0.602,4.106 ; -0.6,-10 0.6,-10 ; -0.6,4.09 -0.6,3.49 ccw(c-0.1,3.49) -0.1,2.99 0.1,2.99 ccw(c0.1,3.49) 0.6,3.49 0.6,4.09 ; -0.6,10 0.6,10 ; 0.623,-9.994 0.891,-9.883 8.149,-5.674 8.36,-5.475 ; 0.623,9.994 0.891,9.883 8.149,5.674 8.36,5.475 ; 8.366,-5.479 ccw(c0,0) 8.91,-4.54 ; 8.366,5.479 cw(c0,0) 8.91,4.54 ; 8.925,-4.511 9,-4.195 9,4.195 8.925,4.511
Top Designator:
  text ".Designator" at -3.647,-0.357 h1
Top 3D Body:
  lines w0.1: -8.925,-4.511 -9,-4.195 -9,4.195 -8.925,4.511 ; -8.91,-4.54 ccw(c0,0) -8.366,-5.479 ; -8.91,4.54 cw(c0,0) -8.366,5.479 ; -8.36,-5.475 -8.149,-5.674 -0.891,-9.883 -0.623,-9.994 ; -8.36,5.475 -8.149,5.674 -0.891,9.883 -0.623,9.994 ; -0.602,4.106 ccw(c0,0) 0.602,4.106 ; -0.6,-10 0.6,-10 ; -0.6,4.09 -0.6,3.49 ccw(c-0.1,3.49) -0.1,2.99 0.1,2.99 ccw(c0.1,3.49) 0.6,3.49 0.6,4.09 ; -0.6,10 0.6,10 ; 0.623,-9.994 0.891,-9.883 8.149,-5.674 8.36,-5.475 ; 0.623,9.994 0.891,9.883 8.149,5.674 8.36,5.475 ; 8.366,-5.479 ccw(c0,0) 8.91,-4.54 ; 8.366,5.479 cw(c0,0) 8.91,4.54 ; 8.925,-4.511 9,-4.195 9,4.195 8.925,4.511
Top Courtyard:
  lines w0.05: -9.2,-10.2 9.2,-10.2 9.2,10.2 -9.2,10.2 -9.2,-10.2
Top Component Center:
  lines w0.1: -0.5,0 0.5,0 ; 0,-0.5 0,0.5
3D body "643260100404.stp": height 23.1, standoff -2.9, extent -9.032,-9.998 9.04,9.998

## 643260100405 [mm] "FEmale Metal Straight Front Simple, 5p"
height 20
pads (5):
  round 1.5 hole 1: 1(-1.768,1.768) 2(1.768,1.768) 3(1.768,-1.768) 4(-1.768,-1.768) 5(0,0)
Top Overlay:
  circle w0.25: c0,10.5 r0.125
  lines w0.2: -8.925,-4.511 -9,-4.195 -9,4.195 -8.925,4.511 ; -8.91,-4.54 ccw(c0,0) -8.366,-5.479 ; -8.91,4.54 cw(c0,0) -8.366,5.479 ; -8.36,-5.475 -8.149,-5.674 -0.891,-9.883 -0.623,-9.994 ; -8.36,5.475 -8.149,5.674 -0.891,9.883 -0.623,9.994 ; -0.602,4.106 ccw(c0,0) 0.602,4.106 ; -0.6,-10 0.6,-10 ; -0.6,4.09 -0.6,3.49 ccw(c-0.1,3.49) -0.1,2.99 0.1,2.99 ccw(c0.1,3.49) 0.6,3.49 0.6,4.09 ; -0.6,10 0.6,10 ; 0.623,-9.994 0.891,-9.883 8.149,-5.674 8.36,-5.475 ; 0.623,9.994 0.891,9.883 8.149,5.674 8.36,5.475 ; 8.366,-5.479 ccw(c0,0) 8.91,-4.54 ; 8.366,5.479 cw(c0,0) 8.91,4.54 ; 8.925,-4.511 9,-4.195 9,4.195 8.925,4.511
Top Assembly:
  lines w0.1: -8.925,-4.511 -9,-4.195 -9,4.195 -8.925,4.511 ; -8.91,-4.54 ccw(c0,0) -8.366,-5.479 ; -8.91,4.54 cw(c0,0) -8.366,5.479 ; -8.36,-5.475 -8.149,-5.674 -0.891,-9.883 -0.623,-9.994 ; -8.36,5.475 -8.149,5.674 -0.891,9.883 -0.623,9.994 ; -0.602,4.106 ccw(c0,0) 0.602,4.106 ; -0.6,-10 0.6,-10 ; -0.6,4.09 -0.6,3.49 ccw(c-0.1,3.49) -0.1,2.99 0.1,2.99 ccw(c0.1,3.49) 0.6,3.49 0.6,4.09 ; -0.6,10 0.6,10 ; 0.623,-9.994 0.891,-9.883 8.149,-5.674 8.36,-5.475 ; 0.623,9.994 0.891,9.883 8.149,5.674 8.36,5.475 ; 8.366,-5.479 ccw(c0,0) 8.91,-4.54 ; 8.366,5.479 cw(c0,0) 8.91,4.54 ; 8.925,-4.511 9,-4.195 9,4.195 8.925,4.511
Top Designator:
  text ".Designator" at -3.647,-0.357 h1
Top 3D Body:
  lines w0.1: -8.925,-4.511 -9,-4.195 -9,4.195 -8.925,4.511 ; -8.91,-4.54 ccw(c0,0) -8.366,-5.479 ; -8.91,4.54 cw(c0,0) -8.366,5.479 ; -8.36,-5.475 -8.149,-5.674 -0.891,-9.883 -0.623,-9.994 ; -8.36,5.475 -8.149,5.674 -0.891,9.883 -0.623,9.994 ; -0.602,4.106 ccw(c0,0) 0.602,4.106 ; -0.6,-10 0.6,-10 ; -0.6,4.09 -0.6,3.49 ccw(c-0.1,3.49) -0.1,2.99 0.1,2.99 ccw(c0.1,3.49) 0.6,3.49 0.6,4.09 ; -0.6,10 0.6,10 ; 0.623,-9.994 0.891,-9.883 8.149,-5.674 8.36,-5.475 ; 0.623,9.994 0.891,9.883 8.149,5.674 8.36,5.475 ; 8.366,-5.479 ccw(c0,0) 8.91,-4.54 ; 8.366,5.479 cw(c0,0) 8.91,4.54 ; 8.925,-4.511 9,-4.195 9,4.195 8.925,4.511
Top Courtyard:
  lines w0.05: -9.2,-10.2 9.2,-10.2 9.2,10.2 -9.2,10.2 -9.2,-10.2
Top Component Center:
  lines w0.1: -0.5,0 0.5,0 ; 0,-0.5 0,0.5
3D body "643260100405.stp": height 23.1, standoff -2.9, extent -9.032,-9.998 9.04,9.998

## 643260100408 [mm] "FEmale Metal Straight Front Simple, 8p"
height 20
pads (8):
  round 1.5 hole 1: 1(-1.498,2.306) 2(1.498,2.306) 3(2.723,0.383) 4(2.08,-1.8) 5(0,-2.75) 6(-2.08,-1.8) 7(-2.723,0.383) 8(0,0)
Top Overlay:
  circle w0.25: c0,10.5 r0.125
  lines w0.2: -8.925,-4.511 -9,-4.195 -9,4.195 -8.925,4.511 ; -8.91,-4.54 ccw(c0,0) -8.366,-5.479 ; -8.91,4.54 cw(c0,0) -8.366,5.479 ; -8.36,-5.475 -8.149,-5.674 -0.891,-9.883 -0.623,-9.994 ; -8.36,5.475 -8.149,5.674 -0.891,9.883 -0.623,9.994 ; -0.602,4.106 ccw(c0,0) 0.602,4.106 ; -0.6,-10 0.6,-10 ; -0.6,4.09 -0.6,3.49 ccw(c-0.1,3.49) -0.1,2.99 0.1,2.99 ccw(c0.1,3.49) 0.6,3.49 0.6,4.09 ; -0.6,10 0.6,10 ; 0.623,-9.994 0.891,-9.883 8.149,-5.674 8.36,-5.475 ; 0.623,9.994 0.891,9.883 8.149,5.674 8.36,5.475 ; 8.366,-5.479 ccw(c0,0) 8.91,-4.54 ; 8.366,5.479 cw(c0,0) 8.91,4.54 ; 8.925,-4.511 9,-4.195 9,4.195 8.925,4.511
Top Assembly:
  lines w0.1: -8.925,-4.511 -9,-4.195 -9,4.195 -8.925,4.511 ; -8.91,-4.54 ccw(c0,0) -8.366,-5.479 ; -8.91,4.54 cw(c0,0) -8.366,5.479 ; -8.36,-5.475 -8.149,-5.674 -0.891,-9.883 -0.623,-9.994 ; -8.36,5.475 -8.149,5.674 -0.891,9.883 -0.623,9.994 ; -0.602,4.106 ccw(c0,0) 0.602,4.106 ; -0.6,-10 0.6,-10 ; -0.6,4.09 -0.6,3.49 ccw(c-0.1,3.49) -0.1,2.99 0.1,2.99 ccw(c0.1,3.49) 0.6,3.49 0.6,4.09 ; -0.6,10 0.6,10 ; 0.623,-9.994 0.891,-9.883 8.149,-5.674 8.36,-5.475 ; 0.623,9.994 0.891,9.883 8.149,5.674 8.36,5.475 ; 8.366,-5.479 ccw(c0,0) 8.91,-4.54 ; 8.366,5.479 cw(c0,0) 8.91,4.54 ; 8.925,-4.511 9,-4.195 9,4.195 8.925,4.511
Top Designator:
  text ".Designator" at -3.647,-0.357 h1
Top 3D Body:
  lines w0.1: -8.925,-4.511 -9,-4.195 -9,4.195 -8.925,4.511 ; -8.91,-4.54 ccw(c0,0) -8.366,-5.479 ; -8.91,4.54 cw(c0,0) -8.366,5.479 ; -8.36,-5.475 -8.149,-5.674 -0.891,-9.883 -0.623,-9.994 ; -8.36,5.475 -8.149,5.674 -0.891,9.883 -0.623,9.994 ; -0.602,4.106 ccw(c0,0) 0.602,4.106 ; -0.6,-10 0.6,-10 ; -0.6,4.09 -0.6,3.49 ccw(c-0.1,3.49) -0.1,2.99 0.1,2.99 ccw(c0.1,3.49) 0.6,3.49 0.6,4.09 ; -0.6,10 0.6,10 ; 0.623,-9.994 0.891,-9.883 8.149,-5.674 8.36,-5.475 ; 0.623,9.994 0.891,9.883 8.149,5.674 8.36,5.475 ; 8.366,-5.479 ccw(c0,0) 8.91,-4.54 ; 8.366,5.479 cw(c0,0) 8.91,4.54 ; 8.925,-4.511 9,-4.195 9,4.195 8.925,4.511
Top Courtyard:
  lines w0.05: -9.2,-10.2 -9.2,10.2 9.2,10.2 9.2,-10.2 -9.2,-10.2
Top Component Center:
  lines w0.1: -0.5,0 0.5,0 ; 0,-0.5 0,0.5
3D body "643260100408.stp": height 23.1, standoff -2.9, extent -9.032,-9.998 9.04,9.998